# EAGLE library part ATMEGA88 (library SMORSE_Chao)
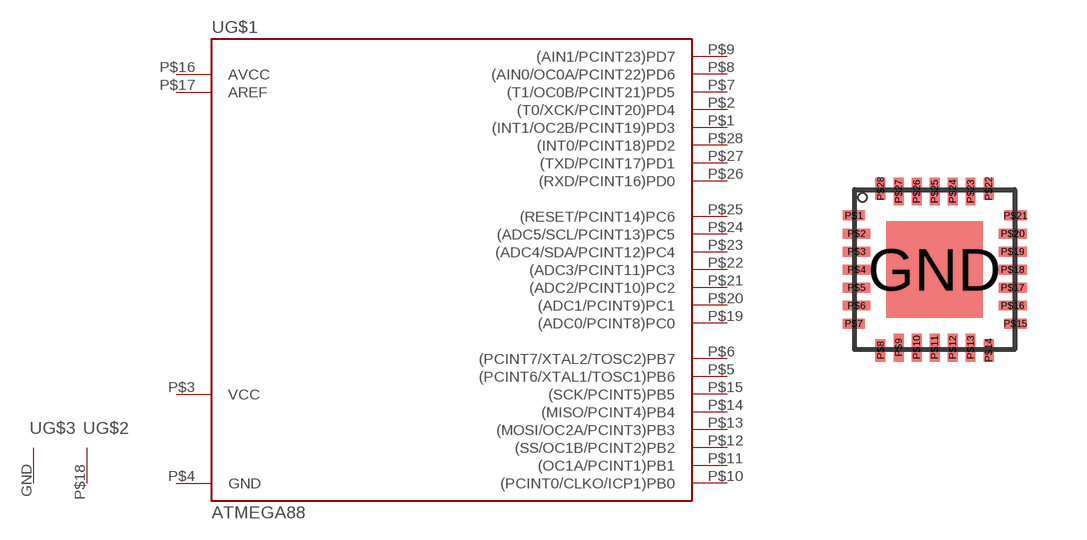
[diagram p10: symbol with the pads of VQFN-28; footprint VQFN-28]

Designator prefix -; gates G$1=ATMEGA88 G$2=GND G$3=GND

## ATMEGA88  [VQFN-28]
GND  G$3:GND  pwr
P$1  G$1:(INT1/OC2B/PCINT19)PD3
P$2  G$1:(T0/XCK/PCINT20)PD4
P$3  G$1:VCC  pwr
P$4  G$1:GND  pwr
P$5  G$1:(PCINT6/XTAL1/TOSC1)PB6
P$6  G$1:(PCINT7/XTAL2/TOSC2)PB7
P$7  G$1:(T1/OC0B/PCINT21)PD5
P$8  G$1:(AIN0/OC0A/PCINT22)PD6
P$9  G$1:(AIN1/PCINT23)PD7
P$10  G$1:(PCINT0/CLKO/ICP1)PB0
P$11  G$1:(OC1A/PCINT1)PB1
P$12  G$1:(SS/OC1B/PCINT2)PB2
P$13  G$1:(MOSI/OC2A/PCINT3)PB3
P$14  G$1:(MISO/PCINT4)PB4
P$15  G$1:(SCK/PCINT5)PB5
P$16  G$1:AVCC  pwr
P$17  G$1:AREF  in
P$18  G$2:GND  pwr
P$19  G$1:(ADC0/PCINT8)PC0
P$20  G$1:(ADC1/PCINT9)PC1
P$21  G$1:(ADC2/PCINT10)PC2
P$22  G$1:(ADC3/PCINT11)PC3
P$23  G$1:(ADC4/SDA/PCINT12)PC4
P$24  G$1:(ADC5/SCL/PCINT13)PC5
P$25  G$1:(RESET/PCINT14)PC6
P$26  G$1:(RXD/PCINT16)PD0
P$27  G$1:(TXD/PCINT17)PD1
P$28  G$1:(INT0/PCINT18)PD2

## Footprint VQFN-28 (pad centres in mm)
smd 2.4 x 2.4: GND 0,0
smd 0.56 x 0.25: P$1 -2.02,1.35; P$7 -2.02,-1.35; P$15 2.02,-1.35; P$21 2.02,1.35
smd 0.7 x 0.25: P$2 -1.95,0.9; P$3 -1.95,0.45; P$4 -1.95,0; P$5 -1.95,-0.45; P$6 -1.95,-0.9; P$16 1.95,-0.9; P$17 1.95,-0.45; P$18 1.95,0; P$19 1.95,0.45; P$20 1.95,0.9
smd 0.25 x 0.56: P$8 -1.35,-2.02; P$14 1.35,-2.02; P$22 1.35,2.02; P$28 -1.35,2.02
smd 0.25 x 0.7: P$9 -0.9,-1.95; P$10 -0.45,-1.95; P$11 0,-1.95; P$12 0.45,-1.95; P$13 0.9,-1.95; P$23 0.9,1.95; P$24 0.45,1.95; P$25 0,1.95; P$26 -0.45,1.95; P$27 -0.9,1.95